# Altium schematic symbol library ZX62-B-5PA(33).SchLib: 1 symbol
Pins are listed as number, name and electrical type; pins without a type are passive.

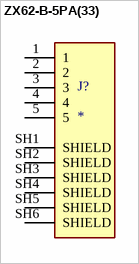
[diagram p0: symbol ZX62-B-5PA(33)]

## ZX62-B-5PA(33)
designator J?
ZX Series 5 Position Right Angle PCB Wire Micro B USB Plug; MF: {'manufacturer': u'Hirose Connector'}; MP: ZX62-B-5PA(33); Availability: Unavailable; Price: None; Value: *; Package: None
footprint HRS_ZX62-B-5PA(33)
pins: 1, 2, 3, 4, 5, SH1 SHIELD, SH2 SHIELD, SH3 SHIELD, SH4 SHIELD, SH5 SHIELD, SH6 SHIELD